# Altium integrated library STMicroelectronics STM32 F1.IntLib: 245 symbols (part 13 of 24)
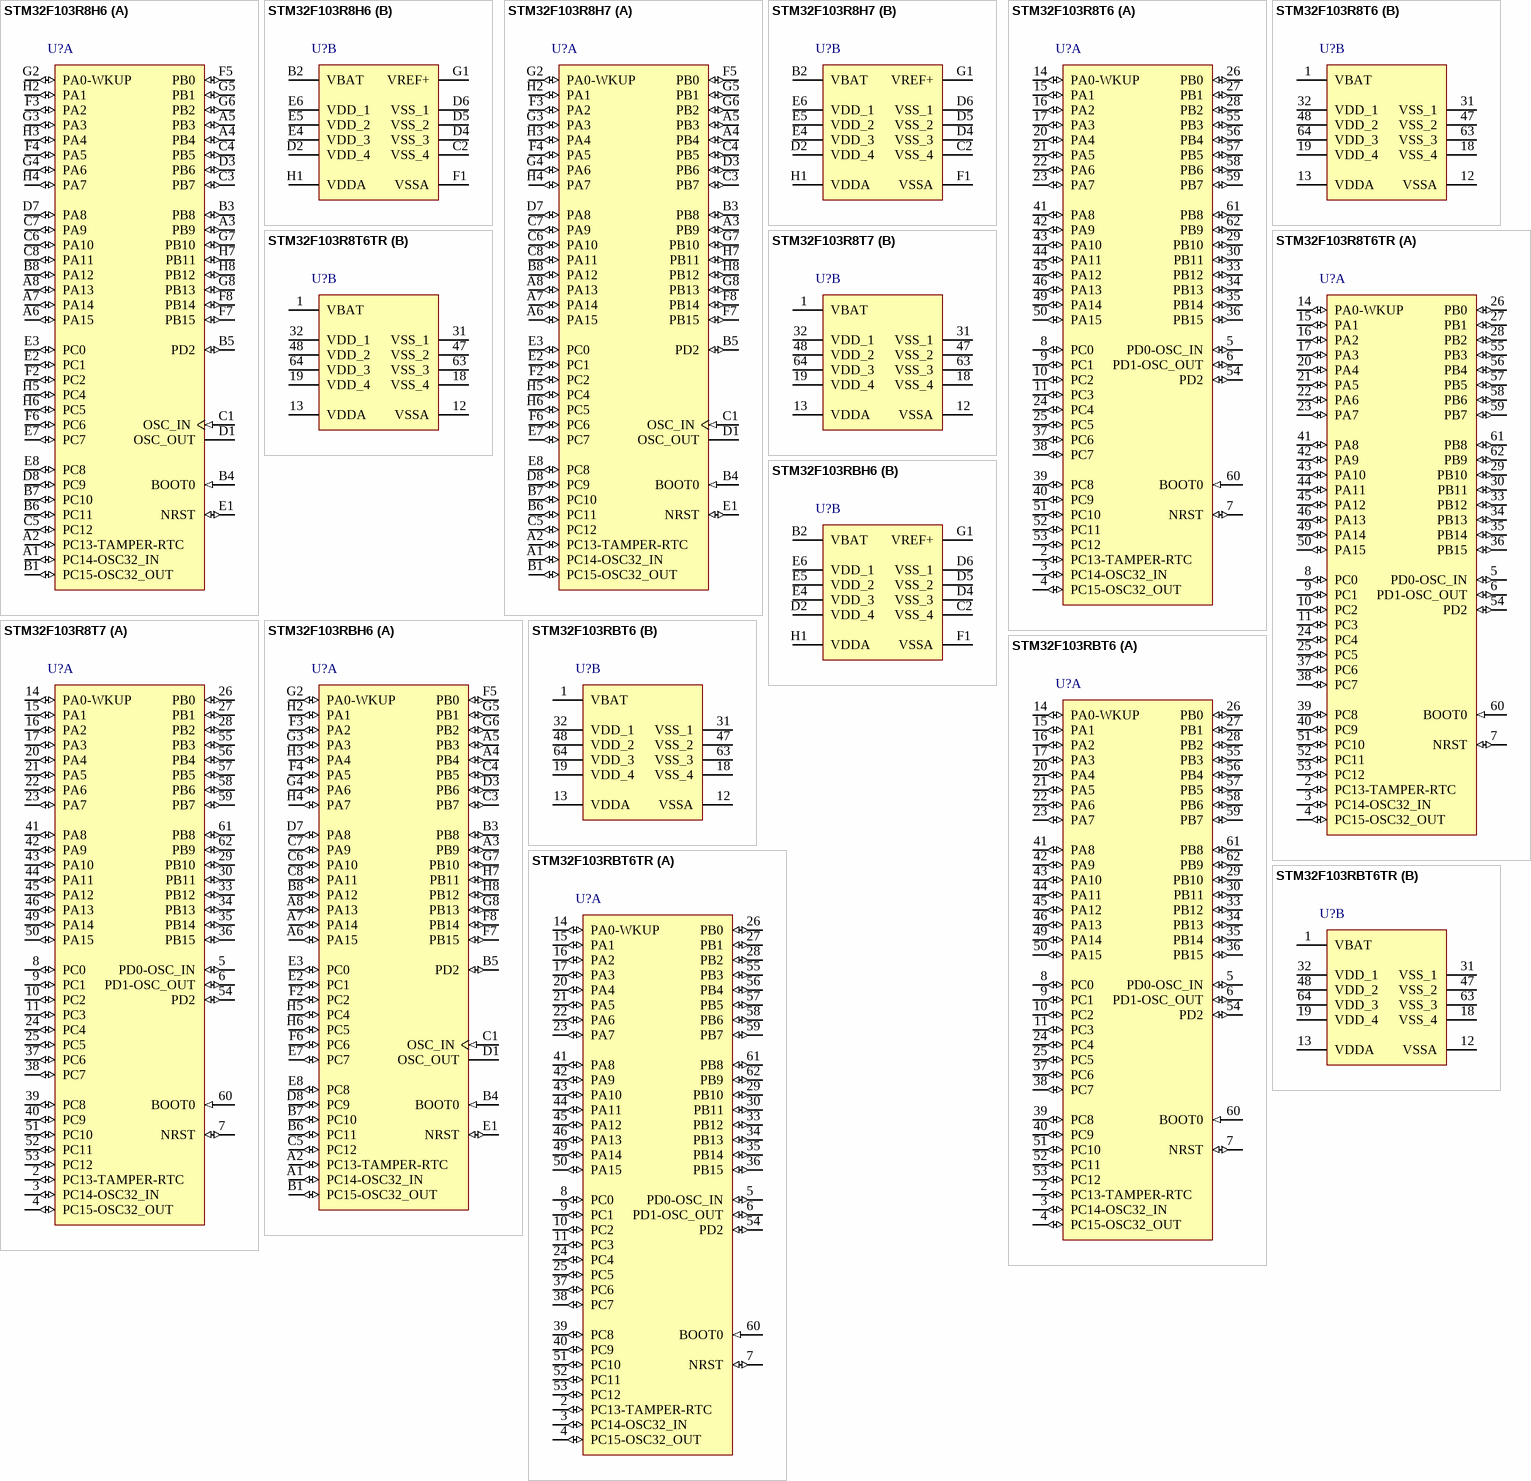
[diagram p54: symbols STM32F103R8H6 to STM32F103RBT6TR]

## STM32F103R8H7
designator U?
ARM Cortex-M3 32-bit MCU, 64 KB Flash, 20 KB Internal RAM, 51 I/Os, 64-pin TFBGA, -40 to 105 degC, Tray; PartNumber: STM32F103R8H7; A/D Converter: 2x12-bit (15 Channel); FLASH Size (Prog) (kB): 64; I/Os (High Current): 51; Internal RAM Size (kB): 20; Operating Frequency(F) (Processor speed) (MHz): 72; Supply Voltage(Vcc) min (V): 2; DatasheetVersion: Rev. 16; PackageVersion: Rev. 8, 02/2013; PackageReference: TFBGA64; PackageDescription: 64-Ball Thin Fine Pitch BGA, 5 x 5 x 1.2 mm Body, 0.5 mm Pitch; Supplier 1: Digi-Key; Supplier Part Number 1: STM32F103R8H7-ND; Supplier 2: Farnell; Supplier Part Number 2: 2333165; Supplier 3: Newark; Supplier Part Number 3: 99W9794; Supplier 4: Mouser; Supplier Part Number 4: 511-STM32F103R8H7; Core: ARM Cortex-M3; Packing: Tray; Mounting Technology: Surface Mount; ComponentLink1Description: Manufacturer URL; ComponentLink1URL: http://www.st.com/web/en/home.html; ComponentLink2Description: Datasheet; ComponentLink2URL: http://www.st.com/st-web-ui/static/active/en/resource/technical/document/datasheet/CD00161566.pdf; ComponentLink3Description: Package Specification; ComponentLink3URL: http://www.st.com/st-web-ui/static/active/en/resource/technical/document/datasheet/CD00277537.pdf
footprint STM-TFBGA64 (BGA, 64-Balls, Body 5x5mm, Pitch 0.5mm)
part A pins: A1 PC14-OSC32_IN (io) "PC14-OSC32_IN/PC14/OSC32_IN", A2 PC13-TAMPER-RTC (io) "PC13-TAMPER-RTC/PC13/TAMPER-RTC", A3 PB9 (io) "PB9/TIM4_CH4/I2C1_SDA/CANTX", A4 PB4 (io) "PB4/NJTRST/TIM3_CH1/SPI1_MISO", A5 PB3 (io) "PB3/JTDO/TIM2_CH2/TRACESWO/SPI1_SCK", A6 PA15 (io) "PA15/JTDI/TIM2_CH1_ETR/SPI1_NSS", A7 PA14 (io) "PA14/JTCK/SWCLK", A8 PA13 (io) "PA13/JTMS/SWDIO", B1 PC15-OSC32_OUT (io) "PC15-OSC32_OUT/PC15/OSC32_OUT", B3 PB8 (io) "PB8/TIM4_CH3/I2C1_SCL/CANRX", B4 BOOT0 (in), B5 PD2 (io) "PD2/TIM3_ETR", B6 PC11 (io) "PC11/USART3_RX", B7 PC10 (io) "PC10/USART3_TX", B8 PA12 (io) "PA12/USART1_RTS/CANTX/USBDP/TIM1_ETR", C1 OSC_IN (in) "PD0/OSC_IN/CANRX", C3 PB7 (io) "PB7/I2C1_SDA/TIM4_CH2/USART1_RX", C4 PB5 (io) "PB5/I2C1_SMBAI/TIM3_CH2/SPI1_MOSI", C5 PC12 (io) "PC12/USART3_CK", C6 PA10 (io) "PA10/USART1_RX/TIM1_CH3", C7 PA9 (io) "PA9/USART1_TX/TIM1_CH2", C8 PA11 (io) "PA11/USART1_CTS/CANRX/USBDM/TIM1_CH4", D1 OSC_OUT "PD1/OSC_OUT/CANTX", D3 PB6 (io) "PB6/I2C1_SCL/TIM4_CH1/USART1_TX", D7 PA8 (io) "PA8/USART1_CK/TIM1_CH1/MCO", D8 PC9 (io) "PC9/TIM3_CH4", E1 NRST (io), E2 PC1 (io) "PC1/ADC12_IN11", E3 PC0 (io) "PC0/ADC12_IN10", E7 PC7 (io) "PC7/TIM3_CH2", E8 PC8 (io) "PC8/TIM3_CH3", F2 PC2 (io) "PC2/ADC12_IN12", F3 PA2 (io) "PA2/USART2_TX/ADC12_IN2/TIM2_CH3", F4 PA5 (io) "PA5/SPI1_SCK/ADC12_IN5", F5 PB0 (io) "PB0/ADC12_IN8/TIM3_CH3/TIM1_CH2N", F6 PC6 (io) "PC6/TIM3_CH1", F7 PB15 (io) "PB15/SPI2_MOSI/TIM1_CH3N", F8 PB14 (io) "PB14/SPI2_MISO/USART3_RTS/TIM1_CH2N", G2 PA0-WKUP (io) "PA0-WKUP/PA0/WKUP/USART2_CTS/ADC12_IN0/TIM2_CH1_ETR", G3 PA3 (io) "PA3/USART2_RX/ADC12_IN3/TIM2_CH4", G4 PA6 (io) "PA6/SPI1_MISO/ADC12_IN6/TIM3_CH1/TIM1_BKIN", G5 PB1 (io) "PB1/ADC12_IN9/TIM3_CH4/TIM1_CH3N", G6 PB2 (io) "PB2/BOOT1", G7 PB10 (io) "PB10/I2C2_SCL/USART3_TX/TIM2_CH3", G8 PB13 (io) "PB13/SPI2_SCK/USART3_CTS/TIM1_CH1N", H2 PA1 (io) "PA1/USART2_RTS/ADC12_IN1/TIM2_CH2", H3 PA4 (io) "PA4/SPI1_NSS/USART2_CK/ADC12_IN4", H4 PA7 (io) "PA7/SPI1_MOSI/ADC12_IN7/TIM3_CH2/TIM1_CH1N", H5 PC4 (io) "PC4/ADC12_IN14", H6 PC5 (io) "PC5/ADC12_IN15", H7 PB11 (io) "PB11/I2C2_SDA/USART3_RX/TIM2_CH4", H8 PB12 (io) "PB12/SPI2_NSS/I2C2_SMBAl/USART3_CK/TIM1_BKIN"
part B pins: B2 VBAT (power), C2 VSS_4 (power), D2 VDD_4 (power), D4 VSS_3 (power), D5 VSS_2 (power), D6 VSS_1 (power), E4 VDD_3 (power), E5 VDD_2 (power), E6 VDD_1 (power), F1 VSSA (power), G1 VREF+ (power), H1 VDDA (power)

## STM32F103R8T6
designator U?
ARM Cortex-M3 32-bit MCU, 64 KB Flash, 20 KB Internal RAM, 51 I/Os, 64-pin LQFP, -40 to 85 degC, Tray; PartNumber: STM32F103R8T6; A/D Converter: 2x12-bit (16 Channel); FLASH Size (Prog) (kB): 64; I/Os (High Current): 51; Internal RAM Size (kB): 20; Operating Frequency(F) (Processor speed) (MHz): 72; Supply Voltage(Vcc) min (V): 2; DatasheetVersion: Rev. 16; PackageVersion: Rev. 4, 06/2013; PackageReference: LQFP64; PackageDescription: 64-Pin Low Profile Quad Flat Package, 10 x 10 mm Body, 0.5 mm Pitch; Supplier 1: Digi-Key; Supplier Part Number 1: 497-6065-ND; Supplier 2: Farnell; Supplier Part Number 2: 1447638; Supplier 3: Newark; Supplier Part Number 3: 57P1241; Supplier 4: Mouser; Supplier Part Number 4: 511-STM32F103R8T6; Core: ARM Cortex-M3; Packing: Tray; Mounting Technology: Surface Mount; ComponentLink1Description: Manufacturer URL; ComponentLink1URL: http://www.st.com/web/en/home.html; ComponentLink2Description: Datasheet; ComponentLink2URL: http://www.st.com/st-web-ui/static/active/en/resource/technical/document/datasheet/CD00161566.pdf; ComponentLink3Description: Package Specification; ComponentLink3URL: http://www.st.com/st-web-ui/static/active/en/resource/technical/document/datasheet/DM00037051.pdf
footprint STM-LQFP64_N (Thin QFP, 64-Leads, Body 10x10mm, Pitch 0.5mm, IPC Medium Density)
footprint STM-LQFP64_L (Thin QFP, 64-Leads, Body 10x10mm, Pitch 0.5mm, IPC High Density)
footprint STM-LQFP64_M (Thin QFP, 64-Leads, Body 10x10mm, Pitch 0.5mm, IPC Low Density)
footprint STM-LQFP64_V (Thin QFP, 64-Leads, Body 10x10mm, Pitch 0.5mm, ST Recommended)
part A pins: 2 PC13-TAMPER-RTC (io) "PC13-TAMPER-RTC/PC13/TAMPER-RTC", 3 PC14-OSC32_IN (io) "PC14-OSC32_IN/PC14/OSC32_IN", 4 PC15-OSC32_OUT (io) "PC15-OSC32_OUT/PC15/OSC32_OUT", 5 PD0-OSC_IN (io) "PD0/OSC_IN", 6 PD1-OSC_OUT (io) "PD1/OSC_OUT", 7 NRST (io), 8 PC0 (io) "PC0/ADC12_IN10", 9 PC1 (io) "PC1/ADC12_IN11", 10 PC2 (io) "PC2/ADC12_IN12", 11 PC3 (io) "PC3/ADC12_IN13", 14 PA0-WKUP (io) "PA0-WKUP/PA0/WKUP/USART2_CTS/ADC12_IN0/TIM2_CH1_ETR", 15 PA1 (io) "PA1/USART2_RTS/ADC12_IN1/TIM2_CH2", 16 PA2 (io) "PA2/USART2_TX/ADC12_IN2/TIM2_CH3", 17 PA3 (io) "PA3/USART2_RX/ADC12_IN3/TIM2_CH4", 20 PA4 (io) "PA4/SPI1_NSS/USART2_CK/ADC12_IN4", 21 PA5 (io) "PA5/SPI1_SCK/ADC12_IN5", 22 PA6 (io) "PA6/SPI1_MISO/ADC12_IN6/TIM3_CH1/TIM1_BKIN", 23 PA7 (io) "PA7/SPI1_MOSI/ADC12_IN7/TIM3_CH2/TIM1_CH1N", 24 PC4 (io) "PC4/ADC12_IN14", 25 PC5 (io) "PC5/ADC12_IN15", 26 PB0 (io) "PB0/ADC12_IN8/TIM3_CH3/TIM1_CH2N", 27 PB1 (io) "PB1/ADC12_IN9/TIM3_CH4/TIM1_CH3N", 28 PB2 (io) "PB2/BOOT1", 29 PB10 (io) "PB10/I2C2_SCL/USART3_TX/TIM2_CH3", 30 PB11 (io) "PB11/I2C2_SDA/USART3_RX/TIM2_CH4", 33 PB12 (io) "PB12/SPI2_NSS/I2C2_SMBAl/USART3_CK/TIM1_BKIN", 34 PB13 (io) "PB13/SPI2_SCK/USART3_CTS/TIM1_CH1N", 35 PB14 (io) "PB14/SPI2_MISO/USART3_RTS/TIM1_CH2N", 36 PB15 (io) "PB15/SPI2_MOSI/TIM1_CH3N", 37 PC6 (io) "PC6/TIM3_CH1", 38 PC7 (io) "PC7/TIM3_CH2", 39 PC8 (io) "PC8/TIM3_CH3", 40 PC9 (io) "PC9/TIM3_CH4", 41 PA8 (io) "PA8/USART1_CK/TIM1_CH1/MCO", 42 PA9 (io) "PA9/USART1_TX/TIM1_CH2", 43 PA10 (io) "PA10/USART1_RX/TIM1_CH3", 44 PA11 (io) "PA11/USART1_CTS/CANRX/USBDM/TIM1_CH4", 45 PA12 (io) "PA12/USART1_RTS/CANTX/USBDP/TIM1_ETR", 46 PA13 (io) "PA13/JTMS/SWDIO", 49 PA14 (io) "PA14/JTCK/SWCLK", 50 PA15 (io) "PA15/JTDI/TIM2_CH1_ETR/SPI1_NSS", 51 PC10 (io) "PC10/USART3_TX", 52 PC11 (io) "PC11/USART3_RX", 53 PC12 (io) "PC12/USART3_CK", 54 PD2 (io) "PD2/TIM3_ETR", 55 PB3 (io) "PB3/JTDO/TIM2_CH2/TRACESWO/SPI1_SCK", 56 PB4 (io) "PB4/NJTRST/TIM3_CH1/SPI1_MISO", 57 PB5 (io) "PB5/I2C1_SMBAI/TIM3_CH2/SPI1_MOSI", 58 PB6 (io) "PB6/I2C1_SCL/TIM4_CH1/USART1_TX", 59 PB7 (io) "PB7/I2C1_SDA/TIM4_CH2/USART1_RX", 60 BOOT0 (in), 61 PB8 (io) "PB8/TIM4_CH3/I2C1_SCL/CANRX", 62 PB9 (io) "PB9/TIM4_CH4/I2C1_SDA/CANTX"
part B pins: 1 VBAT (power), 12 VSSA (power), 13 VDDA (power), 18 VSS_4 (power), 19 VDD_4 (power), 31 VSS_1 (power), 32 VDD_1 (power), 47 VSS_2 (power), 48 VDD_2 (power), 63 VSS_3 (power), 64 VDD_3 (power)

## STM32F103R8T6TR
designator U?
ARM Cortex-M3 32-bit MCU, 64 KB Flash, 20 KB Internal RAM, 51 I/Os, 64-pin LQFP, -40 to 85 degC, Tape and Reel; PartNumber: STM32F103R8T6TR; A/D Converter: 2x12-bit (16 Channel); FLASH Size (Prog) (kB): 64; I/Os (High Current): 51; Internal RAM Size (kB): 20; Operating Frequency(F) (Processor speed) (MHz): 72; Supply Voltage(Vcc) min (V): 2; DatasheetVersion: Rev. 16; PackageVersion: Rev. 4, 06/2013; PackageReference: LQFP64; PackageDescription: 64-Pin Low Profile Quad Flat Package, 10 x 10 mm Body, 0.5 mm Pitch; Supplier 1: Digi-Key; Supplier Part Number 1: STM32F103R8T6TR-ND; Supplier 2: Mouser; Supplier Part Number 2: 511-STM32F103R8T6TR; Core: ARM Cortex-M3; Packing: Tape and Reel; Mounting Technology: Surface Mount; ComponentLink1Description: Manufacturer URL; ComponentLink1URL: http://www.st.com/web/en/home.html; ComponentLink2Description: Datasheet; ComponentLink2URL: http://www.st.com/st-web-ui/static/active/en/resource/technical/document/datasheet/CD00161566.pdf; ComponentLink3Description: Package Specification; ComponentLink3URL: http://www.st.com/st-web-ui/static/active/en/resource/technical/document/datasheet/DM00037051.pdf
footprint STM-LQFP64_N (Thin QFP, 64-Leads, Body 10x10mm, Pitch 0.5mm, IPC Medium Density)
footprint STM-LQFP64_L (Thin QFP, 64-Leads, Body 10x10mm, Pitch 0.5mm, IPC High Density)
footprint STM-LQFP64_M (Thin QFP, 64-Leads, Body 10x10mm, Pitch 0.5mm, IPC Low Density)
footprint STM-LQFP64_V (Thin QFP, 64-Leads, Body 10x10mm, Pitch 0.5mm, ST Recommended)
part A pins: 2 PC13-TAMPER-RTC (io) "PC13-TAMPER-RTC/PC13/TAMPER-RTC", 3 PC14-OSC32_IN (io) "PC14-OSC32_IN/PC14/OSC32_IN", 4 PC15-OSC32_OUT (io) "PC15-OSC32_OUT/PC15/OSC32_OUT", 5 PD0-OSC_IN (io) "PD0/OSC_IN", 6 PD1-OSC_OUT (io) "PD1/OSC_OUT", 7 NRST (io), 8 PC0 (io) "PC0/ADC12_IN10", 9 PC1 (io) "PC1/ADC12_IN11", 10 PC2 (io) "PC2/ADC12_IN12", 11 PC3 (io) "PC3/ADC12_IN13", 14 PA0-WKUP (io) "PA0-WKUP/PA0/WKUP/USART2_CTS/ADC12_IN0/TIM2_CH1_ETR", 15 PA1 (io) "PA1/USART2_RTS/ADC12_IN1/TIM2_CH2", 16 PA2 (io) "PA2/USART2_TX/ADC12_IN2/TIM2_CH3", 17 PA3 (io) "PA3/USART2_RX/ADC12_IN3/TIM2_CH4", 20 PA4 (io) "PA4/SPI1_NSS/USART2_CK/ADC12_IN4", 21 PA5 (io) "PA5/SPI1_SCK/ADC12_IN5", 22 PA6 (io) "PA6/SPI1_MISO/ADC12_IN6/TIM3_CH1/TIM1_BKIN", 23 PA7 (io) "PA7/SPI1_MOSI/ADC12_IN7/TIM3_CH2/TIM1_CH1N", 24 PC4 (io) "PC4/ADC12_IN14", 25 PC5 (io) "PC5/ADC12_IN15", 26 PB0 (io) "PB0/ADC12_IN8/TIM3_CH3/TIM1_CH2N", 27 PB1 (io) "PB1/ADC12_IN9/TIM3_CH4/TIM1_CH3N", 28 PB2 (io) "PB2/BOOT1", 29 PB10 (io) "PB10/I2C2_SCL/USART3_TX/TIM2_CH3", 30 PB11 (io) "PB11/I2C2_SDA/USART3_RX/TIM2_CH4", 33 PB12 (io) "PB12/SPI2_NSS/I2C2_SMBAl/USART3_CK/TIM1_BKIN", 34 PB13 (io) "PB13/SPI2_SCK/USART3_CTS/TIM1_CH1N", 35 PB14 (io) "PB14/SPI2_MISO/USART3_RTS/TIM1_CH2N", 36 PB15 (io) "PB15/SPI2_MOSI/TIM1_CH3N", 37 PC6 (io) "PC6/TIM3_CH1", 38 PC7 (io) "PC7/TIM3_CH2", 39 PC8 (io) "PC8/TIM3_CH3", 40 PC9 (io) "PC9/TIM3_CH4", 41 PA8 (io) "PA8/USART1_CK/TIM1_CH1/MCO", 42 PA9 (io) "PA9/USART1_TX/TIM1_CH2", 43 PA10 (io) "PA10/USART1_RX/TIM1_CH3", 44 PA11 (io) "PA11/USART1_CTS/CANRX/USBDM/TIM1_CH4", 45 PA12 (io) "PA12/USART1_RTS/CANTX/USBDP/TIM1_ETR", 46 PA13 (io) "PA13/JTMS/SWDIO", 49 PA14 (io) "PA14/JTCK/SWCLK", 50 PA15 (io) "PA15/JTDI/TIM2_CH1_ETR/SPI1_NSS", 51 PC10 (io) "PC10/USART3_TX", 52 PC11 (io) "PC11/USART3_RX", 53 PC12 (io) "PC12/USART3_CK", 54 PD2 (io) "PD2/TIM3_ETR", 55 PB3 (io) "PB3/JTDO/TIM2_CH2/TRACESWO/SPI1_SCK", 56 PB4 (io) "PB4/NJTRST/TIM3_CH1/SPI1_MISO", 57 PB5 (io) "PB5/I2C1_SMBAI/TIM3_CH2/SPI1_MOSI", 58 PB6 (io) "PB6/I2C1_SCL/TIM4_CH1/USART1_TX", 59 PB7 (io) "PB7/I2C1_SDA/TIM4_CH2/USART1_RX", 60 BOOT0 (in), 61 PB8 (io) "PB8/TIM4_CH3/I2C1_SCL/CANRX", 62 PB9 (io) "PB9/TIM4_CH4/I2C1_SDA/CANTX"
part B pins: 1 VBAT (power), 12 VSSA (power), 13 VDDA (power), 18 VSS_4 (power), 19 VDD_4 (power), 31 VSS_1 (power), 32 VDD_1 (power), 47 VSS_2 (power), 48 VDD_2 (power), 63 VSS_3 (power), 64 VDD_3 (power)

## STM32F103R8T7
designator U?
ARM Cortex-M3 32-bit MCU, 64 KB Flash, 20 KB Internal RAM, 51 I/Os, 64-pin LQFP, -40 to 105 degC, Tray; PartNumber: STM32F103R8T7; A/D Converter: 2x12-bit (16 Channel); FLASH Size (Prog) (kB): 64; I/Os (High Current): 51; Internal RAM Size (kB): 20; Operating Frequency(F) (Processor speed) (MHz): 72; Supply Voltage(Vcc) min (V): 2; DatasheetVersion: Rev. 16; PackageVersion: Rev. 4, 06/2013; PackageReference: LQFP64; PackageDescription: 64-Pin Low Profile Quad Flat Package, 10 x 10 mm Body, 0.5 mm Pitch; Supplier 1: Digi-Key; Supplier Part Number 1: 497-11524-ND; Supplier 2: Farnell; Supplier Part Number 2: 2215216; Supplier 3: Newark; Supplier Part Number 3: 46W2188; Supplier 4: Mouser; Supplier Part Number 4: 511-STM32F103R8T7; Core: ARM Cortex-M3; Packing: Tray; Mounting Technology: Surface Mount; ComponentLink1Description: Manufacturer URL; ComponentLink1URL: http://www.st.com/web/en/home.html; ComponentLink2Description: Datasheet; ComponentLink2URL: http://www.st.com/st-web-ui/static/active/en/resource/technical/document/datasheet/CD00161566.pdf; ComponentLink3Description: Package Specification; ComponentLink3URL: http://www.st.com/st-web-ui/static/active/en/resource/technical/document/datasheet/DM00037051.pdf
footprint STM-LQFP64_N (Thin QFP, 64-Leads, Body 10x10mm, Pitch 0.5mm, IPC Medium Density)
footprint STM-LQFP64_L (Thin QFP, 64-Leads, Body 10x10mm, Pitch 0.5mm, IPC High Density)
footprint STM-LQFP64_M (Thin QFP, 64-Leads, Body 10x10mm, Pitch 0.5mm, IPC Low Density)
footprint STM-LQFP64_V (Thin QFP, 64-Leads, Body 10x10mm, Pitch 0.5mm, ST Recommended)
part A pins: 2 PC13-TAMPER-RTC (io) "PC13-TAMPER-RTC/PC13/TAMPER-RTC", 3 PC14-OSC32_IN (io) "PC14-OSC32_IN/PC14/OSC32_IN", 4 PC15-OSC32_OUT (io) "PC15-OSC32_OUT/PC15/OSC32_OUT", 5 PD0-OSC_IN (io) "PD0/OSC_IN", 6 PD1-OSC_OUT (io) "PD1/OSC_OUT", 7 NRST (io), 8 PC0 (io) "PC0/ADC12_IN10", 9 PC1 (io) "PC1/ADC12_IN11", 10 PC2 (io) "PC2/ADC12_IN12", 11 PC3 (io) "PC3/ADC12_IN13", 14 PA0-WKUP (io) "PA0-WKUP/PA0/WKUP/USART2_CTS/ADC12_IN0/TIM2_CH1_ETR", 15 PA1 (io) "PA1/USART2_RTS/ADC12_IN1/TIM2_CH2", 16 PA2 (io) "PA2/USART2_TX/ADC12_IN2/TIM2_CH3", 17 PA3 (io) "PA3/USART2_RX/ADC12_IN3/TIM2_CH4", 20 PA4 (io) "PA4/SPI1_NSS/USART2_CK/ADC12_IN4", 21 PA5 (io) "PA5/SPI1_SCK/ADC12_IN5", 22 PA6 (io) "PA6/SPI1_MISO/ADC12_IN6/TIM3_CH1/TIM1_BKIN", 23 PA7 (io) "PA7/SPI1_MOSI/ADC12_IN7/TIM3_CH2/TIM1_CH1N", 24 PC4 (io) "PC4/ADC12_IN14", 25 PC5 (io) "PC5/ADC12_IN15", 26 PB0 (io) "PB0/ADC12_IN8/TIM3_CH3/TIM1_CH2N", 27 PB1 (io) "PB1/ADC12_IN9/TIM3_CH4/TIM1_CH3N", 28 PB2 (io) "PB2/BOOT1", 29 PB10 (io) "PB10/I2C2_SCL/USART3_TX/TIM2_CH3", 30 PB11 (io) "PB11/I2C2_SDA/USART3_RX/TIM2_CH4", 33 PB12 (io) "PB12/SPI2_NSS/I2C2_SMBAl/USART3_CK/TIM1_BKIN", 34 PB13 (io) "PB13/SPI2_SCK/USART3_CTS/TIM1_CH1N", 35 PB14 (io) "PB14/SPI2_MISO/USART3_RTS/TIM1_CH2N", 36 PB15 (io) "PB15/SPI2_MOSI/TIM1_CH3N", 37 PC6 (io) "PC6/TIM3_CH1", 38 PC7 (io) "PC7/TIM3_CH2", 39 PC8 (io) "PC8/TIM3_CH3", 40 PC9 (io) "PC9/TIM3_CH4", 41 PA8 (io) "PA8/USART1_CK/TIM1_CH1/MCO", 42 PA9 (io) "PA9/USART1_TX/TIM1_CH2", 43 PA10 (io) "PA10/USART1_RX/TIM1_CH3", 44 PA11 (io) "PA11/USART1_CTS/CANRX/USBDM/TIM1_CH4", 45 PA12 (io) "PA12/USART1_RTS/CANTX/USBDP/TIM1_ETR", 46 PA13 (io) "PA13/JTMS/SWDIO", 49 PA14 (io) "PA14/JTCK/SWCLK", 50 PA15 (io) "PA15/JTDI/TIM2_CH1_ETR/SPI1_NSS", 51 PC10 (io) "PC10/USART3_TX", 52 PC11 (io) "PC11/USART3_RX", 53 PC12 (io) "PC12/USART3_CK", 54 PD2 (io) "PD2/TIM3_ETR", 55 PB3 (io) "PB3/JTDO/TIM2_CH2/TRACESWO/SPI1_SCK", 56 PB4 (io) "PB4/NJTRST/TIM3_CH1/SPI1_MISO", 57 PB5 (io) "PB5/I2C1_SMBAI/TIM3_CH2/SPI1_MOSI", 58 PB6 (io) "PB6/I2C1_SCL/TIM4_CH1/USART1_TX", 59 PB7 (io) "PB7/I2C1_SDA/TIM4_CH2/USART1_RX", 60 BOOT0 (in), 61 PB8 (io) "PB8/TIM4_CH3/I2C1_SCL/CANRX", 62 PB9 (io) "PB9/TIM4_CH4/I2C1_SDA/CANTX"
part B pins: 1 VBAT (power), 12 VSSA (power), 13 VDDA (power), 18 VSS_4 (power), 19 VDD_4 (power), 31 VSS_1 (power), 32 VDD_1 (power), 47 VSS_2 (power), 48 VDD_2 (power), 63 VSS_3 (power), 64 VDD_3 (power)

## STM32F103RBH6
designator U?
ARM Cortex-M3 32-bit MCU, 128 KB Flash, 20 KB Internal RAM, 51 I/Os, 64-pin TFBGA, -40 to 85 degC, Tray; PartNumber: STM32F103RBH6; A/D Converter: 2x12-bit (15 Channel); FLASH Size (Prog) (kB): 128; I/Os (High Current): 51; Internal RAM Size (kB): 20; Operating Frequency(F) (Processor speed) (MHz): 72; Supply Voltage(Vcc) min (V): 2; DatasheetVersion: Rev. 16; PackageVersion: Rev. 8, 02/2013; PackageReference: TFBGA64; PackageDescription: 64-Ball Thin Fine Pitch BGA, 5 x 5 x 1.2 mm Body, 0.5 mm Pitch; Supplier 1: Digi-Key; Supplier Part Number 1: 497-11525-ND; Supplier 2: Farnell; Supplier Part Number 2: 2333166; Supplier 3: Newark; Supplier Part Number 3: 99W9783; Supplier 4: Newark; Supplier Part Number 4: 57P1223; Supplier 5: Mouser; Supplier Part Number 5: 511-STM32F103RBH6; Core: ARM Cortex-M3; Packing: Tray; Mounting Technology: Surface Mount; ComponentLink1Description: Manufacturer URL; ComponentLink1URL: http://www.st.com/web/en/home.html; ComponentLink2Description: Datasheet; ComponentLink2URL: http://www.st.com/st-web-ui/static/active/en/resource/technical/document/datasheet/CD00161566.pdf; ComponentLink3Description: Package Specification; ComponentLink3URL: http://www.st.com/st-web-ui/static/active/en/resource/technical/document/datasheet/CD00277537.pdf
footprint STM-TFBGA64 (BGA, 64-Balls, Body 5x5mm, Pitch 0.5mm)
part A pins: A1 PC14-OSC32_IN (io) "PC14-OSC32_IN/PC14/OSC32_IN", A2 PC13-TAMPER-RTC (io) "PC13-TAMPER-RTC/PC13/TAMPER-RTC", A3 PB9 (io) "PB9/TIM4_CH4/I2C1_SDA/CANTX", A4 PB4 (io) "PB4/NJTRST/TIM3_CH1/SPI1_MISO", A5 PB3 (io) "PB3/JTDO/TIM2_CH2/TRACESWO/SPI1_SCK", A6 PA15 (io) "PA15/JTDI/TIM2_CH1_ETR/SPI1_NSS", A7 PA14 (io) "PA14/JTCK/SWCLK", A8 PA13 (io) "PA13/JTMS/SWDIO", B1 PC15-OSC32_OUT (io) "PC15-OSC32_OUT/PC15/OSC32_OUT", B3 PB8 (io) "PB8/TIM4_CH3/I2C1_SCL/CANRX", B4 BOOT0 (in), B5 PD2 (io) "PD2/TIM3_ETR", B6 PC11 (io) "PC11/USART3_RX", B7 PC10 (io) "PC10/USART3_TX", B8 PA12 (io) "PA12/USART1_RTS/CANTX/USBDP/TIM1_ETR", C1 OSC_IN (in) "PD0/OSC_IN/CANRX", C3 PB7 (io) "PB7/I2C1_SDA/TIM4_CH2/USART1_RX", C4 PB5 (io) "PB5/I2C1_SMBAI/TIM3_CH2/SPI1_MOSI", C5 PC12 (io) "PC12/USART3_CK", C6 PA10 (io) "PA10/USART1_RX/TIM1_CH3", C7 PA9 (io) "PA9/USART1_TX/TIM1_CH2", C8 PA11 (io) "PA11/USART1_CTS/CANRX/USBDM/TIM1_CH4", D1 OSC_OUT "PD1/OSC_OUT/CANTX", D3 PB6 (io) "PB6/I2C1_SCL/TIM4_CH1/USART1_TX", D7 PA8 (io) "PA8/USART1_CK/TIM1_CH1/MCO", D8 PC9 (io) "PC9/TIM3_CH4", E1 NRST (io), E2 PC1 (io) "PC1/ADC12_IN11", E3 PC0 (io) "PC0/ADC12_IN10", E7 PC7 (io) "PC7/TIM3_CH2", E8 PC8 (io) "PC8/TIM3_CH3", F2 PC2 (io) "PC2/ADC12_IN12", F3 PA2 (io) "PA2/USART2_TX/ADC12_IN2/TIM2_CH3", F4 PA5 (io) "PA5/SPI1_SCK/ADC12_IN5", F5 PB0 (io) "PB0/ADC12_IN8/TIM3_CH3/TIM1_CH2N", F6 PC6 (io) "PC6/TIM3_CH1", F7 PB15 (io) "PB15/SPI2_MOSI/TIM1_CH3N", F8 PB14 (io) "PB14/SPI2_MISO/USART3_RTS/TIM1_CH2N", G2 PA0-WKUP (io) "PA0-WKUP/PA0/WKUP/USART2_CTS/ADC12_IN0/TIM2_CH1_ETR", G3 PA3 (io) "PA3/USART2_RX/ADC12_IN3/TIM2_CH4", G4 PA6 (io) "PA6/SPI1_MISO/ADC12_IN6/TIM3_CH1/TIM1_BKIN", G5 PB1 (io) "PB1/ADC12_IN9/TIM3_CH4/TIM1_CH3N", G6 PB2 (io) "PB2/BOOT1", G7 PB10 (io) "PB10/I2C2_SCL/USART3_TX/TIM2_CH3", G8 PB13 (io) "PB13/SPI2_SCK/USART3_CTS/TIM1_CH1N", H2 PA1 (io) "PA1/USART2_RTS/ADC12_IN1/TIM2_CH2", H3 PA4 (io) "PA4/SPI1_NSS/USART2_CK/ADC12_IN4", H4 PA7 (io) "PA7/SPI1_MOSI/ADC12_IN7/TIM3_CH2/TIM1_CH1N", H5 PC4 (io) "PC4/ADC12_IN14", H6 PC5 (io) "PC5/ADC12_IN15", H7 PB11 (io) "PB11/I2C2_SDA/USART3_RX/TIM2_CH4", H8 PB12 (io) "PB12/SPI2_NSS/I2C2_SMBAl/USART3_CK/TIM1_BKIN"
part B pins: B2 VBAT (power), C2 VSS_4 (power), D2 VDD_4 (power), D4 VSS_3 (power), D5 VSS_2 (power), D6 VSS_1 (power), E4 VDD_3 (power), E5 VDD_2 (power), E6 VDD_1 (power), F1 VSSA (power), G1 VREF+ (power), H1 VDDA (power)

## STM32F103RBT6
designator U?
ARM Cortex-M3 32-bit MCU, 128 KB Flash, 20 KB Internal RAM, 51 I/Os, 64-pin LQFP, -40 to 85 degC, Tray; PartNumber: STM32F103RBT6; A/D Converter: 2x12-bit (16 Channel); FLASH Size (Prog) (kB): 128; I/Os (High Current): 51; Internal RAM Size (kB): 20; Operating Frequency(F) (Processor speed) (MHz): 72; Supply Voltage(Vcc) min (V): 2; DatasheetVersion: Rev. 16; PackageVersion: Rev. 4, 06/2013; PackageReference: LQFP64; PackageDescription: 64-Pin Low Profile Quad Flat Package, 10 x 10 mm Body, 0.5 mm Pitch; Supplier 1: Digi-Key; Supplier Part Number 1: 497-6066-ND; Supplier 2: Farnell; Supplier Part Number 2: 1447640; Supplier 3: Newark; Supplier Part Number 3: 59M2183; Supplier 4: Newark; Supplier Part Number 4: 57P1224; Supplier 5: Mouser; Supplier Part Number 5: 511-STM32F103RBT6; Core: ARM Cortex-M3; Packing: Tray; Mounting Technology: Surface Mount; ComponentLink1Description: Manufacturer URL; ComponentLink1URL: http://www.st.com/web/en/home.html; ComponentLink2Description: Datasheet; ComponentLink2URL: http://www.st.com/st-web-ui/static/active/en/resource/technical/document/datasheet/CD00161566.pdf; ComponentLink3Description: Package Specification; ComponentLink3URL: http://www.st.com/st-web-ui/static/active/en/resource/technical/document/datasheet/DM00037051.pdf
footprint STM-LQFP64_N (Thin QFP, 64-Leads, Body 10x10mm, Pitch 0.5mm, IPC Medium Density)
footprint STM-LQFP64_L (Thin QFP, 64-Leads, Body 10x10mm, Pitch 0.5mm, IPC High Density)
footprint STM-LQFP64_M (Thin QFP, 64-Leads, Body 10x10mm, Pitch 0.5mm, IPC Low Density)
footprint STM-LQFP64_V (Thin QFP, 64-Leads, Body 10x10mm, Pitch 0.5mm, ST Recommended)
part A pins: 2 PC13-TAMPER-RTC (io) "PC13-TAMPER-RTC/PC13/TAMPER-RTC", 3 PC14-OSC32_IN (io) "PC14-OSC32_IN/PC14/OSC32_IN", 4 PC15-OSC32_OUT (io) "PC15-OSC32_OUT/PC15/OSC32_OUT", 5 PD0-OSC_IN (io) "PD0/OSC_IN", 6 PD1-OSC_OUT (io) "PD1/OSC_OUT", 7 NRST (io), 8 PC0 (io) "PC0/ADC12_IN10", 9 PC1 (io) "PC1/ADC12_IN11", 10 PC2 (io) "PC2/ADC12_IN12", 11 PC3 (io) "PC3/ADC12_IN13", 14 PA0-WKUP (io) "PA0-WKUP/PA0/WKUP/USART2_CTS/ADC12_IN0/TIM2_CH1_ETR", 15 PA1 (io) "PA1/USART2_RTS/ADC12_IN1/TIM2_CH2", 16 PA2 (io) "PA2/USART2_TX/ADC12_IN2/TIM2_CH3", 17 PA3 (io) "PA3/USART2_RX/ADC12_IN3/TIM2_CH4", 20 PA4 (io) "PA4/SPI1_NSS/USART2_CK/ADC12_IN4", 21 PA5 (io) "PA5/SPI1_SCK/ADC12_IN5", 22 PA6 (io) "PA6/SPI1_MISO/ADC12_IN6/TIM3_CH1/TIM1_BKIN", 23 PA7 (io) "PA7/SPI1_MOSI/ADC12_IN7/TIM3_CH2/TIM1_CH1N", 24 PC4 (io) "PC4/ADC12_IN14", 25 PC5 (io) "PC5/ADC12_IN15", 26 PB0 (io) "PB0/ADC12_IN8/TIM3_CH3/TIM1_CH2N", 27 PB1 (io) "PB1/ADC12_IN9/TIM3_CH4/TIM1_CH3N", 28 PB2 (io) "PB2/BOOT1", 29 PB10 (io) "PB10/I2C2_SCL/USART3_TX/TIM2_CH3", 30 PB11 (io) "PB11/I2C2_SDA/USART3_RX/TIM2_CH4", 33 PB12 (io) "PB12/SPI2_NSS/I2C2_SMBAl/USART3_CK/TIM1_BKIN", 34 PB13 (io) "PB13/SPI2_SCK/USART3_CTS/TIM1_CH1N", 35 PB14 (io) "PB14/SPI2_MISO/USART3_RTS/TIM1_CH2N", 36 PB15 (io) "PB15/SPI2_MOSI/TIM1_CH3N", 37 PC6 (io) "PC6/TIM3_CH1", 38 PC7 (io) "PC7/TIM3_CH2", 39 PC8 (io) "PC8/TIM3_CH3", 40 PC9 (io) "PC9/TIM3_CH4", 41 PA8 (io) "PA8/USART1_CK/TIM1_CH1/MCO", 42 PA9 (io) "PA9/USART1_TX/TIM1_CH2", 43 PA10 (io) "PA10/USART1_RX/TIM1_CH3", 44 PA11 (io) "PA11/USART1_CTS/CANRX/USBDM/TIM1_CH4", 45 PA12 (io) "PA12/USART1_RTS/CANTX/USBDP/TIM1_ETR", 46 PA13 (io) "PA13/JTMS/SWDIO", 49 PA14 (io) "PA14/JTCK/SWCLK", 50 PA15 (io) "PA15/JTDI/TIM2_CH1_ETR/SPI1_NSS", 51 PC10 (io) "PC10/USART3_TX", 52 PC11 (io) "PC11/USART3_RX", 53 PC12 (io) "PC12/USART3_CK", 54 PD2 (io) "PD2/TIM3_ETR", 55 PB3 (io) "PB3/JTDO/TIM2_CH2/TRACESWO/SPI1_SCK", 56 PB4 (io) "PB4/NJTRST/TIM3_CH1/SPI1_MISO", 57 PB5 (io) "PB5/I2C1_SMBAI/TIM3_CH2/SPI1_MOSI", 58 PB6 (io) "PB6/I2C1_SCL/TIM4_CH1/USART1_TX", 59 PB7 (io) "PB7/I2C1_SDA/TIM4_CH2/USART1_RX", 60 BOOT0 (in), 61 PB8 (io) "PB8/TIM4_CH3/I2C1_SCL/CANRX", 62 PB9 (io) "PB9/TIM4_CH4/I2C1_SDA/CANTX"
part B pins: 1 VBAT (power), 12 VSSA (power), 13 VDDA (power), 18 VSS_4 (power), 19 VDD_4 (power), 31 VSS_1 (power), 32 VDD_1 (power), 47 VSS_2 (power), 48 VDD_2 (power), 63 VSS_3 (power), 64 VDD_3 (power)

## STM32F103RBT6TR
designator U?
ARM Cortex-M3 32-bit MCU, 128 KB Flash, 20 KB Internal RAM, 51 I/Os, 64-pin LQFP, -40 to 85 degC, Tape and Reel; PartNumber: STM32F103RBT6TR; A/D Converter: 2x12-bit (16 Channel); FLASH Size (Prog) (kB): 128; I/Os (High Current): 51; Internal RAM Size (kB): 20; Operating Frequency(F) (Processor speed) (MHz): 72; Supply Voltage(Vcc) min (V): 2; DatasheetVersion: Rev. 16; PackageVersion: Rev. 4, 06/2013; PackageReference: LQFP64; PackageDescription: 64-Pin Low Profile Quad Flat Package, 10 x 10 mm Body, 0.5 mm Pitch; Supplier 1: Digi-Key; Supplier Part Number 1: STM32F103RBT6TR-ND; Supplier 2: Mouser; Supplier Part Number 2: 511-STM32F103RBT6TR; Core: ARM Cortex-M3; Packing: Tape and Reel; Mounting Technology: Surface Mount; ComponentLink1Description: Manufacturer URL; ComponentLink1URL: http://www.st.com/web/en/home.html; ComponentLink2Description: Datasheet; ComponentLink2URL: http://www.st.com/st-web-ui/static/active/en/resource/technical/document/datasheet/CD00161566.pdf; ComponentLink3Description: Package Specification; ComponentLink3URL: http://www.st.com/st-web-ui/static/active/en/resource/technical/document/datasheet/DM00037051.pdf
footprint STM-LQFP64_N (Thin QFP, 64-Leads, Body 10x10mm, Pitch 0.5mm, IPC Medium Density)
footprint STM-LQFP64_L (Thin QFP, 64-Leads, Body 10x10mm, Pitch 0.5mm, IPC High Density)
footprint STM-LQFP64_M (Thin QFP, 64-Leads, Body 10x10mm, Pitch 0.5mm, IPC Low Density)
footprint STM-LQFP64_V (Thin QFP, 64-Leads, Body 10x10mm, Pitch 0.5mm, ST Recommended)
part A pins: 2 PC13-TAMPER-RTC (io) "PC13-TAMPER-RTC/PC13/TAMPER-RTC", 3 PC14-OSC32_IN (io) "PC14-OSC32_IN/PC14/OSC32_IN", 4 PC15-OSC32_OUT (io) "PC15-OSC32_OUT/PC15/OSC32_OUT", 5 PD0-OSC_IN (io) "PD0/OSC_IN", 6 PD1-OSC_OUT (io) "PD1/OSC_OUT", 7 NRST (io), 8 PC0 (io) "PC0/ADC12_IN10", 9 PC1 (io) "PC1/ADC12_IN11", 10 PC2 (io) "PC2/ADC12_IN12", 11 PC3 (io) "PC3/ADC12_IN13", 14 PA0-WKUP (io) "PA0-WKUP/PA0/WKUP/USART2_CTS/ADC12_IN0/TIM2_CH1_ETR", 15 PA1 (io) "PA1/USART2_RTS/ADC12_IN1/TIM2_CH2", 16 PA2 (io) "PA2/USART2_TX/ADC12_IN2/TIM2_CH3", 17 PA3 (io) "PA3/USART2_RX/ADC12_IN3/TIM2_CH4", 20 PA4 (io) "PA4/SPI1_NSS/USART2_CK/ADC12_IN4", 21 PA5 (io) "PA5/SPI1_SCK/ADC12_IN5", 22 PA6 (io) "PA6/SPI1_MISO/ADC12_IN6/TIM3_CH1/TIM1_BKIN", 23 PA7 (io) "PA7/SPI1_MOSI/ADC12_IN7/TIM3_CH2/TIM1_CH1N", 24 PC4 (io) "PC4/ADC12_IN14", 25 PC5 (io) "PC5/ADC12_IN15", 26 PB0 (io) "PB0/ADC12_IN8/TIM3_CH3/TIM1_CH2N", 27 PB1 (io) "PB1/ADC12_IN9/TIM3_CH4/TIM1_CH3N", 28 PB2 (io) "PB2/BOOT1", 29 PB10 (io) "PB10/I2C2_SCL/USART3_TX/TIM2_CH3", 30 PB11 (io) "PB11/I2C2_SDA/USART3_RX/TIM2_CH4", 33 PB12 (io) "PB12/SPI2_NSS/I2C2_SMBAl/USART3_CK/TIM1_BKIN", 34 PB13 (io) "PB13/SPI2_SCK/USART3_CTS/TIM1_CH1N", 35 PB14 (io) "PB14/SPI2_MISO/USART3_RTS/TIM1_CH2N", 36 PB15 (io) "PB15/SPI2_MOSI/TIM1_CH3N", 37 PC6 (io) "PC6/TIM3_CH1", 38 PC7 (io) "PC7/TIM3_CH2", 39 PC8 (io) "PC8/TIM3_CH3", 40 PC9 (io) "PC9/TIM3_CH4", 41 PA8 (io) "PA8/USART1_CK/TIM1_CH1/MCO", 42 PA9 (io) "PA9/USART1_TX/TIM1_CH2", 43 PA10 (io) "PA10/USART1_RX/TIM1_CH3", 44 PA11 (io) "PA11/USART1_CTS/CANRX/USBDM/TIM1_CH4", 45 PA12 (io) "PA12/USART1_RTS/CANTX/USBDP/TIM1_ETR", 46 PA13 (io) "PA13/JTMS/SWDIO", 49 PA14 (io) "PA14/JTCK/SWCLK", 50 PA15 (io) "PA15/JTDI/TIM2_CH1_ETR/SPI1_NSS", 51 PC10 (io) "PC10/USART3_TX", 52 PC11 (io) "PC11/USART3_RX", 53 PC12 (io) "PC12/USART3_CK", 54 PD2 (io) "PD2/TIM3_ETR", 55 PB3 (io) "PB3/JTDO/TIM2_CH2/TRACESWO/SPI1_SCK", 56 PB4 (io) "PB4/NJTRST/TIM3_CH1/SPI1_MISO", 57 PB5 (io) "PB5/I2C1_SMBAI/TIM3_CH2/SPI1_MOSI", 58 PB6 (io) "PB6/I2C1_SCL/TIM4_CH1/USART1_TX", 59 PB7 (io) "PB7/I2C1_SDA/TIM4_CH2/USART1_RX", 60 BOOT0 (in), 61 PB8 (io) "PB8/TIM4_CH3/I2C1_SCL/CANRX", 62 PB9 (io) "PB9/TIM4_CH4/I2C1_SDA/CANTX"
part B pins: 1 VBAT (power), 12 VSSA (power), 13 VDDA (power), 18 VSS_4 (power), 19 VDD_4 (power), 31 VSS_1 (power), 32 VDD_1 (power), 47 VSS_2 (power), 48 VDD_2 (power), 63 VSS_3 (power), 64 VDD_3 (power)

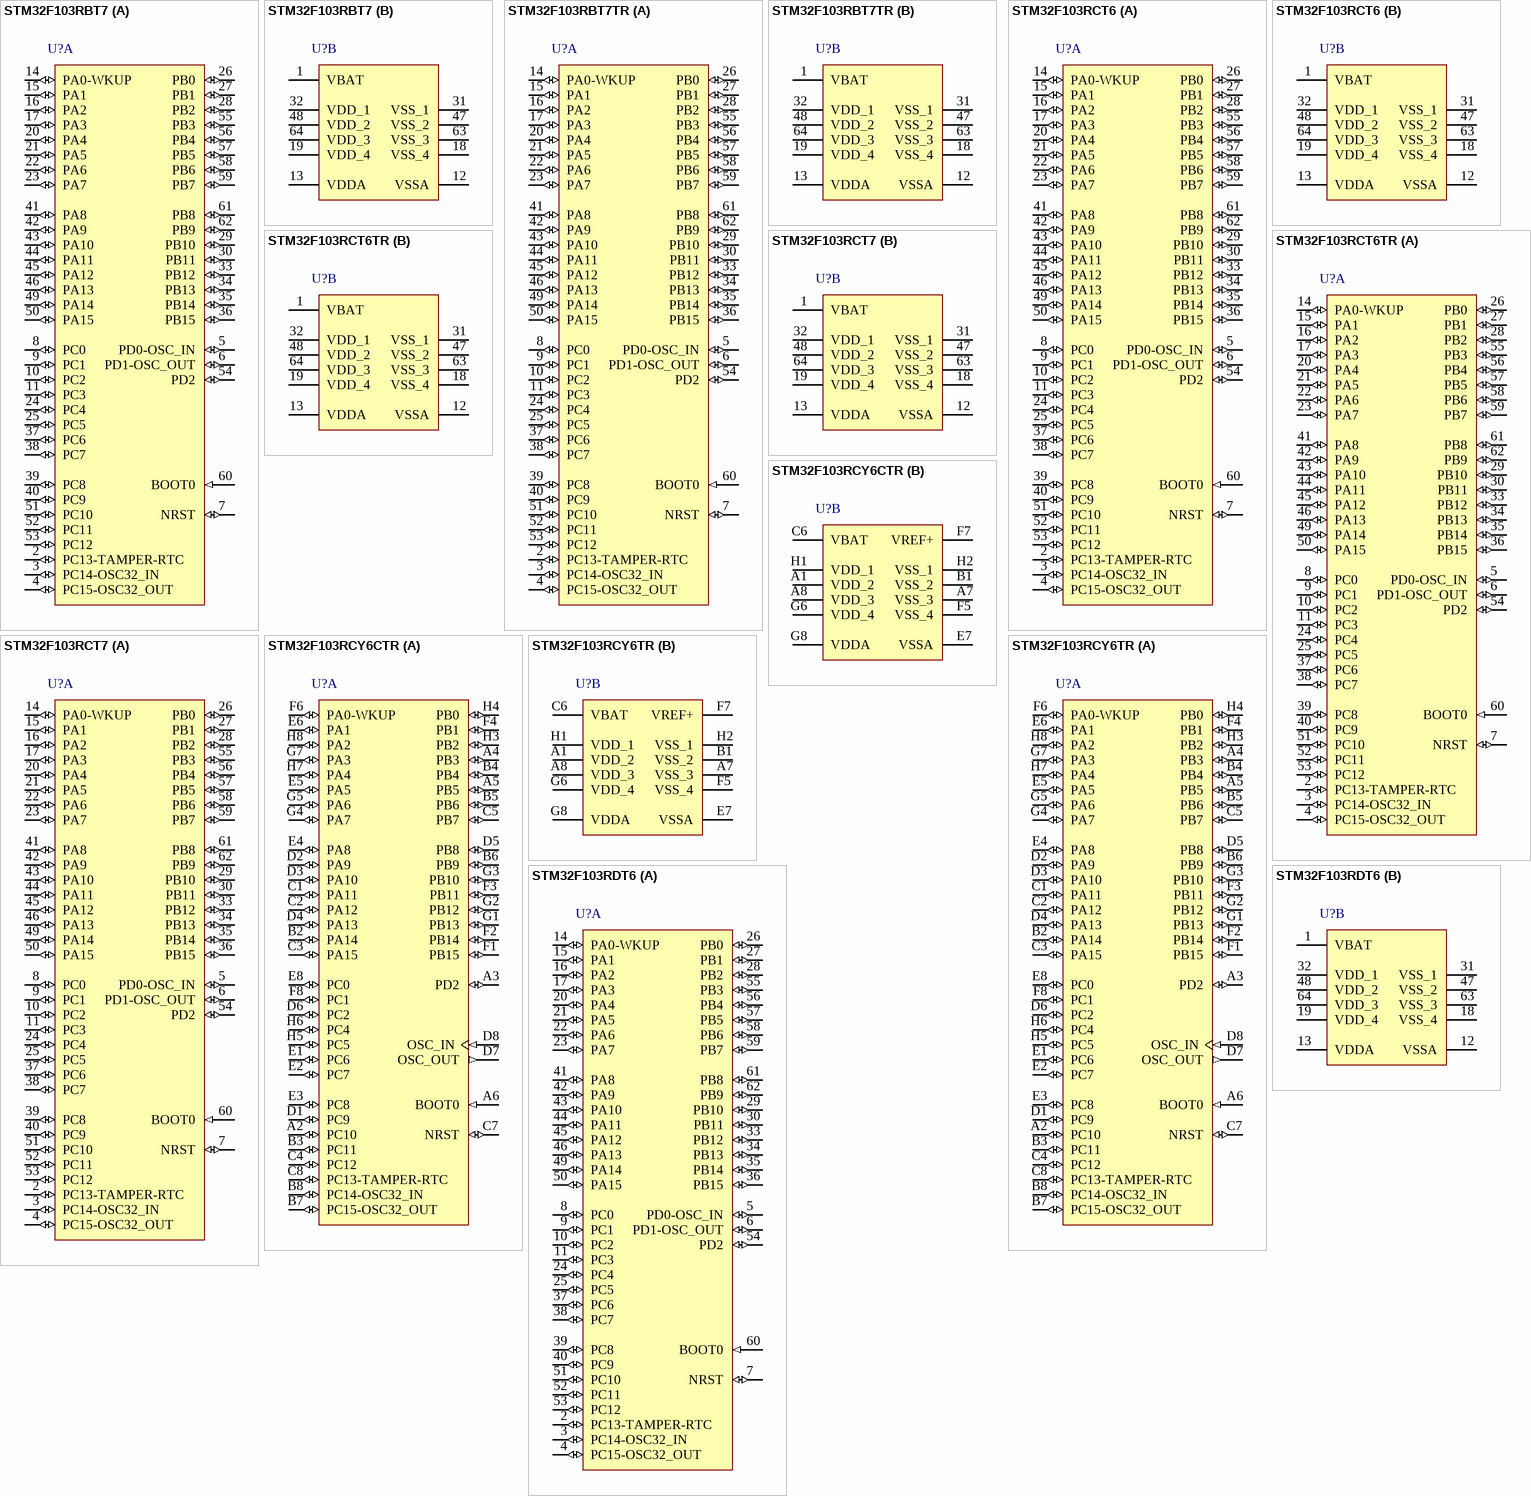
[diagram p21: symbols STM32F103RBT7 to STM32F103RDT6]

## STM32F103RBT7
designator U?
ARM Cortex-M3 32-bit MCU, 128 KB Flash, 20 KB Internal RAM, 51 I/Os, 64-pin LQFP, -40 to 105 degC, Tray; PartNumber: STM32F103RBT7; A/D Converter: 2x12-bit (16 Channel); FLASH Size (Prog) (kB): 128; I/Os (High Current): 51; Internal RAM Size (kB): 20; Operating Frequency(F) (Processor speed) (MHz): 72; Supply Voltage(Vcc) min (V): 2; DatasheetVersion: Rev. 16; PackageVersion: Rev. 4, 06/2013; PackageReference: LQFP64; PackageDescription: 64-Pin Low Profile Quad Flat Package, 10 x 10 mm Body, 0.5 mm Pitch; Supplier 1: Digi-Key; Supplier Part Number 1: 497-11526-ND; Supplier 2: Farnell; Supplier Part Number 2: 2215217; Supplier 3: Newark; Supplier Part Number 3: 46W2184; Supplier 4: Mouser; Supplier Part Number 4: 511-STM32F103RBT7; Core: ARM Cortex-M3; Packing: Tray; Mounting Technology: Surface Mount; ComponentLink1Description: Manufacturer URL; ComponentLink1URL: http://www.st.com/web/en/home.html; ComponentLink2Description: Datasheet; ComponentLink2URL: http://www.st.com/st-web-ui/static/active/en/resource/technical/document/datasheet/CD00161566.pdf; ComponentLink3Description: Package Specification; ComponentLink3URL: http://www.st.com/st-web-ui/static/active/en/resource/technical/document/datasheet/DM00037051.pdf
footprint STM-LQFP64_N (Thin QFP, 64-Leads, Body 10x10mm, Pitch 0.5mm, IPC Medium Density)
footprint STM-LQFP64_L (Thin QFP, 64-Leads, Body 10x10mm, Pitch 0.5mm, IPC High Density)
footprint STM-LQFP64_M (Thin QFP, 64-Leads, Body 10x10mm, Pitch 0.5mm, IPC Low Density)
footprint STM-LQFP64_V (Thin QFP, 64-Leads, Body 10x10mm, Pitch 0.5mm, ST Recommended)
part A pins: 2 PC13-TAMPER-RTC (io) "PC13-TAMPER-RTC/PC13/TAMPER-RTC", 3 PC14-OSC32_IN (io) "PC14-OSC32_IN/PC14/OSC32_IN", 4 PC15-OSC32_OUT (io) "PC15-OSC32_OUT/PC15/OSC32_OUT", 5 PD0-OSC_IN (io) "PD0/OSC_IN", 6 PD1-OSC_OUT (io) "PD1/OSC_OUT", 7 NRST (io), 8 PC0 (io) "PC0/ADC12_IN10", 9 PC1 (io) "PC1/ADC12_IN11", 10 PC2 (io) "PC2/ADC12_IN12", 11 PC3 (io) "PC3/ADC12_IN13", 14 PA0-WKUP (io) "PA0-WKUP/PA0/WKUP/USART2_CTS/ADC12_IN0/TIM2_CH1_ETR", 15 PA1 (io) "PA1/USART2_RTS/ADC12_IN1/TIM2_CH2", 16 PA2 (io) "PA2/USART2_TX/ADC12_IN2/TIM2_CH3", 17 PA3 (io) "PA3/USART2_RX/ADC12_IN3/TIM2_CH4", 20 PA4 (io) "PA4/SPI1_NSS/USART2_CK/ADC12_IN4", 21 PA5 (io) "PA5/SPI1_SCK/ADC12_IN5", 22 PA6 (io) "PA6/SPI1_MISO/ADC12_IN6/TIM3_CH1/TIM1_BKIN", 23 PA7 (io) "PA7/SPI1_MOSI/ADC12_IN7/TIM3_CH2/TIM1_CH1N", 24 PC4 (io) "PC4/ADC12_IN14", 25 PC5 (io) "PC5/ADC12_IN15", 26 PB0 (io) "PB0/ADC12_IN8/TIM3_CH3/TIM1_CH2N", 27 PB1 (io) "PB1/ADC12_IN9/TIM3_CH4/TIM1_CH3N", 28 PB2 (io) "PB2/BOOT1", 29 PB10 (io) "PB10/I2C2_SCL/USART3_TX/TIM2_CH3", 30 PB11 (io) "PB11/I2C2_SDA/USART3_RX/TIM2_CH4", 33 PB12 (io) "PB12/SPI2_NSS/I2C2_SMBAl/USART3_CK/TIM1_BKIN", 34 PB13 (io) "PB13/SPI2_SCK/USART3_CTS/TIM1_CH1N", 35 PB14 (io) "PB14/SPI2_MISO/USART3_RTS/TIM1_CH2N", 36 PB15 (io) "PB15/SPI2_MOSI/TIM1_CH3N", 37 PC6 (io) "PC6/TIM3_CH1", 38 PC7 (io) "PC7/TIM3_CH2", 39 PC8 (io) "PC8/TIM3_CH3", 40 PC9 (io) "PC9/TIM3_CH4", 41 PA8 (io) "PA8/USART1_CK/TIM1_CH1/MCO", 42 PA9 (io) "PA9/USART1_TX/TIM1_CH2", 43 PA10 (io) "PA10/USART1_RX/TIM1_CH3", 44 PA11 (io) "PA11/USART1_CTS/CANRX/USBDM/TIM1_CH4", 45 PA12 (io) "PA12/USART1_RTS/CANTX/USBDP/TIM1_ETR", 46 PA13 (io) "PA13/JTMS/SWDIO", 49 PA14 (io) "PA14/JTCK/SWCLK", 50 PA15 (io) "PA15/JTDI/TIM2_CH1_ETR/SPI1_NSS", 51 PC10 (io) "PC10/USART3_TX", 52 PC11 (io) "PC11/USART3_RX", 53 PC12 (io) "PC12/USART3_CK", 54 PD2 (io) "PD2/TIM3_ETR", 55 PB3 (io) "PB3/JTDO/TIM2_CH2/TRACESWO/SPI1_SCK", 56 PB4 (io) "PB4/NJTRST/TIM3_CH1/SPI1_MISO", 57 PB5 (io) "PB5/I2C1_SMBAI/TIM3_CH2/SPI1_MOSI", 58 PB6 (io) "PB6/I2C1_SCL/TIM4_CH1/USART1_TX", 59 PB7 (io) "PB7/I2C1_SDA/TIM4_CH2/USART1_RX", 60 BOOT0 (in), 61 PB8 (io) "PB8/TIM4_CH3/I2C1_SCL/CANRX", 62 PB9 (io) "PB9/TIM4_CH4/I2C1_SDA/CANTX"
part B pins: 1 VBAT (power), 12 VSSA (power), 13 VDDA (power), 18 VSS_4 (power), 19 VDD_4 (power), 31 VSS_1 (power), 32 VDD_1 (power), 47 VSS_2 (power), 48 VDD_2 (power), 63 VSS_3 (power), 64 VDD_3 (power)

## STM32F103RBT7TR
designator U?
ARM Cortex-M3 32-bit MCU, 128 KB Flash, 20 KB Internal RAM, 51 I/Os, 64-pin LQFP, -40 to 105 degC, Tape and Reel; PartNumber: STM32F103RBT7TR; A/D Converter: 2x12-bit (16 Channel); FLASH Size (Prog) (kB): 128; I/Os (High Current): 51; Internal RAM Size (kB): 20; Operating Frequency(F) (Processor speed) (MHz): 72; Supply Voltage(Vcc) min (V): 2; DatasheetVersion: Rev. 16; PackageVersion: Rev. 4, 06/2013; PackageReference: LQFP64; PackageDescription: 64-Pin Low Profile Quad Flat Package, 10 x 10 mm Body, 0.5 mm Pitch; Supplier 1: Digi-Key; Supplier Part Number 1: STM32F103RBT7TR-ND; Supplier 2: Mouser; Supplier Part Number 2: 511-STM32F103RBT7TR; Core: ARM Cortex-M3; Packing: Tape and Reel; Mounting Technology: Surface Mount; ComponentLink1Description: Manufacturer URL; ComponentLink1URL: http://www.st.com/web/en/home.html; ComponentLink2Description: Datasheet; ComponentLink2URL: http://www.st.com/st-web-ui/static/active/en/resource/technical/document/datasheet/CD00161566.pdf; ComponentLink3Description: Package Specification; ComponentLink3URL: http://www.st.com/st-web-ui/static/active/en/resource/technical/document/datasheet/DM00037051.pdf
footprint STM-LQFP64_N (Thin QFP, 64-Leads, Body 10x10mm, Pitch 0.5mm, IPC Medium Density)
footprint STM-LQFP64_L (Thin QFP, 64-Leads, Body 10x10mm, Pitch 0.5mm, IPC High Density)
footprint STM-LQFP64_M (Thin QFP, 64-Leads, Body 10x10mm, Pitch 0.5mm, IPC Low Density)
footprint STM-LQFP64_V (Thin QFP, 64-Leads, Body 10x10mm, Pitch 0.5mm, ST Recommended)
part A pins: 2 PC13-TAMPER-RTC (io) "PC13-TAMPER-RTC/PC13/TAMPER-RTC", 3 PC14-OSC32_IN (io) "PC14-OSC32_IN/PC14/OSC32_IN", 4 PC15-OSC32_OUT (io) "PC15-OSC32_OUT/PC15/OSC32_OUT", 5 PD0-OSC_IN (io) "PD0/OSC_IN", 6 PD1-OSC_OUT (io) "PD1/OSC_OUT", 7 NRST (io), 8 PC0 (io) "PC0/ADC12_IN10", 9 PC1 (io) "PC1/ADC12_IN11", 10 PC2 (io) "PC2/ADC12_IN12", 11 PC3 (io) "PC3/ADC12_IN13", 14 PA0-WKUP (io) "PA0-WKUP/PA0/WKUP/USART2_CTS/ADC12_IN0/TIM2_CH1_ETR", 15 PA1 (io) "PA1/USART2_RTS/ADC12_IN1/TIM2_CH2", 16 PA2 (io) "PA2/USART2_TX/ADC12_IN2/TIM2_CH3", 17 PA3 (io) "PA3/USART2_RX/ADC12_IN3/TIM2_CH4", 20 PA4 (io) "PA4/SPI1_NSS/USART2_CK/ADC12_IN4", 21 PA5 (io) "PA5/SPI1_SCK/ADC12_IN5", 22 PA6 (io) "PA6/SPI1_MISO/ADC12_IN6/TIM3_CH1/TIM1_BKIN", 23 PA7 (io) "PA7/SPI1_MOSI/ADC12_IN7/TIM3_CH2/TIM1_CH1N", 24 PC4 (io) "PC4/ADC12_IN14", 25 PC5 (io) "PC5/ADC12_IN15", 26 PB0 (io) "PB0/ADC12_IN8/TIM3_CH3/TIM1_CH2N", 27 PB1 (io) "PB1/ADC12_IN9/TIM3_CH4/TIM1_CH3N", 28 PB2 (io) "PB2/BOOT1", 29 PB10 (io) "PB10/I2C2_SCL/USART3_TX/TIM2_CH3", 30 PB11 (io) "PB11/I2C2_SDA/USART3_RX/TIM2_CH4", 33 PB12 (io) "PB12/SPI2_NSS/I2C2_SMBAl/USART3_CK/TIM1_BKIN", 34 PB13 (io) "PB13/SPI2_SCK/USART3_CTS/TIM1_CH1N", 35 PB14 (io) "PB14/SPI2_MISO/USART3_RTS/TIM1_CH2N", 36 PB15 (io) "PB15/SPI2_MOSI/TIM1_CH3N", 37 PC6 (io) "PC6/TIM3_CH1", 38 PC7 (io) "PC7/TIM3_CH2", 39 PC8 (io) "PC8/TIM3_CH3", 40 PC9 (io) "PC9/TIM3_CH4", 41 PA8 (io) "PA8/USART1_CK/TIM1_CH1/MCO", 42 PA9 (io) "PA9/USART1_TX/TIM1_CH2", 43 PA10 (io) "PA10/USART1_RX/TIM1_CH3", 44 PA11 (io) "PA11/USART1_CTS/CANRX/USBDM/TIM1_CH4", 45 PA12 (io) "PA12/USART1_RTS/CANTX/USBDP/TIM1_ETR", 46 PA13 (io) "PA13/JTMS/SWDIO", 49 PA14 (io) "PA14/JTCK/SWCLK", 50 PA15 (io) "PA15/JTDI/TIM2_CH1_ETR/SPI1_NSS", 51 PC10 (io) "PC10/USART3_TX", 52 PC11 (io) "PC11/USART3_RX", 53 PC12 (io) "PC12/USART3_CK", 54 PD2 (io) "PD2/TIM3_ETR", 55 PB3 (io) "PB3/JTDO/TIM2_CH2/TRACESWO/SPI1_SCK", 56 PB4 (io) "PB4/NJTRST/TIM3_CH1/SPI1_MISO", 57 PB5 (io) "PB5/I2C1_SMBAI/TIM3_CH2/SPI1_MOSI", 58 PB6 (io) "PB6/I2C1_SCL/TIM4_CH1/USART1_TX", 59 PB7 (io) "PB7/I2C1_SDA/TIM4_CH2/USART1_RX", 60 BOOT0 (in), 61 PB8 (io) "PB8/TIM4_CH3/I2C1_SCL/CANRX", 62 PB9 (io) "PB9/TIM4_CH4/I2C1_SDA/CANTX"
part B pins: 1 VBAT (power), 12 VSSA (power), 13 VDDA (power), 18 VSS_4 (power), 19 VDD_4 (power), 31 VSS_1 (power), 32 VDD_1 (power), 47 VSS_2 (power), 48 VDD_2 (power), 63 VSS_3 (power), 64 VDD_3 (power)

## STM32F103RCT6
designator U?
ARM Cortex-M3 32-bit MCU, 256 KB Flash, 48 KB Internal RAM, 51 I/Os, 64-pin LQFP, -40 to 85 degC, Tray; PartNumber: STM32F103RCT6; A/D Converter: 3x12-bit (16 Channel); D/A Converter: 2x12-bit (2 Channel); FLASH Size (Prog) (kB): 256; I/Os (High Current): 51; Internal RAM Size (kB): 48; Operating Frequency(F) (Processor speed) (MHz): 72; Supply Voltage(Vcc) min (V): 2; DatasheetVersion: Rev. 8; PackageVersion: Rev. 4, 06/2013; PackageReference: LQFP64; PackageDescription: 64-Pin Low Profile Quad Flat Package, 10 x 10 mm Body, 0.5 mm Pitch; Supplier 1: Digi-Key; Supplier Part Number 1: 497-9033-ND; Supplier 2: Newark; Supplier Part Number 2: 01P4099; Supplier 3: Newark; Supplier Part Number 3: 57P1227; Supplier 4: Mouser; Supplier Part Number 4: 511-STM32F103RCT6; Core: ARM Cortex-M3; Packing: Tray; Mounting Technology: Surface Mount; ComponentLink1Description: Manufacturer URL; ComponentLink1URL: http://www.st.com/web/en/home.html; ComponentLink2Description: Datasheet; ComponentLink2URL: http://www.st.com/st-web-ui/static/active/en/resource/technical/document/datasheet/CD00191185.pdf; ComponentLink3Description: Package Specification; ComponentLink3URL: http://www.st.com/st-web-ui/static/active/en/resource/technical/document/datasheet/DM00037051.pdf
footprint STM-LQFP64_N (Thin QFP, 64-Leads, Body 10x10mm, Pitch 0.5mm, IPC Medium Density)
footprint STM-LQFP64_L (Thin QFP, 64-Leads, Body 10x10mm, Pitch 0.5mm, IPC High Density)
footprint STM-LQFP64_M (Thin QFP, 64-Leads, Body 10x10mm, Pitch 0.5mm, IPC Low Density)
footprint STM-LQFP64_V (Thin QFP, 64-Leads, Body 10x10mm, Pitch 0.5mm, ST Recommended)
part A pins: 2 PC13-TAMPER-RTC (io) "PC13-TAMPER-RTC/PC13/TAMPER-RTC", 3 PC14-OSC32_IN (io) "PC14-OSC32_IN/PC14/OSC32_IN", 4 PC15-OSC32_OUT (io) "PC15-OSC32_OUT/PC15/OSC32_OUT", 5 PD0-OSC_IN (io) "PD0/OSC_IN/CAN_RX", 6 PD1-OSC_OUT (io) "PD1/OSC_OUT/CAN_TX", 7 NRST (io), 8 PC0 (io) "PC0/ADC123_IN10", 9 PC1 (io) "PC1/ADC123_IN11", 10 PC2 (io) "PC2/ADC123_IN12", 11 PC3 (io) "PC3/ADC123_IN13", 14 PA0-WKUP (io) "PA0-WKUP/PA0/WKUP/USART2_CTS/ADC123_IN0/TIM2_CH1_ETR/TIM5_CH1/TIM8_ETR", 15 PA1 (io) "PA1/USART2_RTS/ADC123_IN1/TIM5_CH2/TIM2_CH2", 16 PA2 (io) "PA2/USART2_TX/TIM5_CH3/ADC123_IN2/TIM2_CH3", 17 PA3 (io) "PA3/USART2_RX/TIM5_CH4/ADC123_IN3/TIM2_CH4", 20 PA4 (io) "PA4/SPI1_NSS/USART2_CK/DAC_OUT1/ADC12_IN4", 21 PA5 (io) "PA5/SPI1_SCK/DAC_OUT2/ADC12_IN5", 22 PA6 (io) "PA6/SPI1_MISO/TIM8_BKIN/ADC12_IN6/TIM3_CH1/TIM1_BKIN", 23 PA7 (io) "PA7/SPI1_MOSI/TIM8_CH1N/ADC12_IN7/TIM3_CH2/TIM1_CH1N", 24 PC4 (io) "PC4/ADC12_IN14", 25 PC5 (io) "PC5/ADC12_IN15", 26 PB0 (io) "PB0/ADC12_IN8/TIM3_CH3/TIM8_CH2N/TIM1_CH2N", 27 PB1 (io) "PB1/ADC12_IN9/TIM3_CH4/TIM8_CH3N/TIM1_CH3N", 28 PB2 (io) "PB2/BOOT1", 29 PB10 (io) "PB10/I2C2_SCL/USART3_TX/TIM2_CH3", 30 PB11 (io) "PB11/I2C2_SDA/USART3_RX/TIM2_CH4", 33 PB12 (io) "PB12/SPI2_NSS/I2S2_WS/I2C2_SMBA/USART3_CK/TIM1_BKIN", 34 PB13 (io) "PB13/SPI2_SCK/I2S2_CK/USART3_CTS/TIM1_CH1N", 35 PB14 (io) "PB14/SPI2_MISO/TIM1_CH2N/USART3_RTS", 36 PB15 (io) "PB15/SPI2_MOSI/I2S2_SD/TIM1_CH3N", 37 PC6 (io) "PC6/I2S2_MCK/TIM8_CH1/SDIO_D6/TIM3_CH1", 38 PC7 (io) "PC7/I2S3_MCK/TIM8_CH2/SDIO_D7/TIM3_CH2", 39 PC8 (io) "PC8/TIM8_CH3/SDIO_D0/TIM3_CH3", 40 PC9 (io) "PC9/TIM8_CH4/SDIO_D1/TIM3_CH4", 41 PA8 (io) "PA8/USART1_CK/TIM1_CH1/MCO", 42 PA9 (io) "PA9/USART1_TX/TIM1_CH2", 43 PA10 (io) "PA10/USART1_RX/TIM1_CH3", 44 PA11 (io) "PA11/USART1_CTS/USBDM/CAN_RX/TIM1_CH4", 45 PA12 (io) "PA12/USART1_RTS/USBDP/CAN_TX/TIM1_ETR", 46 PA13 (io) "PA13/JTMS-SWDIO", 49 PA14 (io) "PA14/JTCK-SWCLK", 50 PA15 (io) "PA15/JTDI/SPI3_NSS/I2S3_WS/TIM2_CH1_ETR/SPI1_NSS", 51 PC10 (io) "PC10/UART4_TX/SDIO_D2/USART3_TX", 52 PC11 (io) "PC11/UART4_RX/SDIO_D3/USART3_RX", 53 PC12 (io) "PC12/UART5_TX/SDIO_CK/USART3_CK", 54 PD2 (io) "PD2/TIM3_ETR/UART5_RX/SDIO_CMD", 55 PB3 (io) "PB3/JTDO/SPI3_SCK/I2S3_CK/TRACESWO/TIM2_CH2/SPI1_SCK", 56 PB4 (io) "PB4/NJTRST/SPI3_MISO/TIM3_CH1/SPI1_MISO", 57 PB5 (io) "PB5/I2C1_SMBA/SPI3_MOSI/I2S3_SD/TIM3_CH2/SPI1_MOSI", 58 PB6 (io) "PB6/I2C1_SCL/TIM4_CH1/USART1_TX", 59 PB7 (io) "PB7/I2C1_SDA/TIM4_CH2/USART1_RX", 60 BOOT0 (in), 61 PB8 (io) "PB8/TIM4_CH3/SDIO_D4/I2C1_SCL/CAN_RX", 62 PB9 (io) "PB9/TIM4_CH4/SDIO_D5/I2C1_SDA/CAN_TX"
part B pins: 1 VBAT (power), 12 VSSA (power), 13 VDDA (power), 18 VSS_4 (power), 19 VDD_4 (power), 31 VSS_1 (power), 32 VDD_1 (power), 47 VSS_2 (power), 48 VDD_2 (power), 63 VSS_3 (power), 64 VDD_3 (power)

## STM32F103RCT6TR
designator U?
ARM Cortex-M3 32-bit MCU, 256 KB Flash, 48 KB Internal RAM, 51 I/Os, 64-pin LQFP, -40 to 85 degC, Tape and Reel; PartNumber: STM32F103RCT6TR; A/D Converter: 3x12-bit (16 Channel); D/A Converter: 2x12-bit (2 Channel); FLASH Size (Prog) (kB): 256; I/Os (High Current): 51; Internal RAM Size (kB): 48; Operating Frequency(F) (Processor speed) (MHz): 72; Supply Voltage(Vcc) min (V): 2; DatasheetVersion: Rev. 8; PackageVersion: Rev. 4, 06/2013; PackageReference: LQFP64; PackageDescription: 64-Pin Low Profile Quad Flat Package, 10 x 10 mm Body, 0.5 mm Pitch; Supplier 1: Digi-Key; Supplier Part Number 1: STM32F103RCT6TR-ND; Supplier 2: Newark; Supplier Part Number 2: 57P1228; Supplier 3: Mouser; Supplier Part Number 3: 511-STM32F103RCT6TR; Core: ARM Cortex-M3; Packing: Tape and Reel; Mounting Technology: Surface Mount; ComponentLink1Description: Manufacturer URL; ComponentLink1URL: http://www.st.com/web/en/home.html; ComponentLink2Description: Datasheet; ComponentLink2URL: http://www.st.com/st-web-ui/static/active/en/resource/technical/document/datasheet/CD00191185.pdf; ComponentLink3Description: Package Specification; ComponentLink3URL: http://www.st.com/st-web-ui/static/active/en/resource/technical/document/datasheet/DM00037051.pdf
footprint STM-LQFP64_N (Thin QFP, 64-Leads, Body 10x10mm, Pitch 0.5mm, IPC Medium Density)
footprint STM-LQFP64_L (Thin QFP, 64-Leads, Body 10x10mm, Pitch 0.5mm, IPC High Density)
footprint STM-LQFP64_M (Thin QFP, 64-Leads, Body 10x10mm, Pitch 0.5mm, IPC Low Density)
footprint STM-LQFP64_V (Thin QFP, 64-Leads, Body 10x10mm, Pitch 0.5mm, ST Recommended)
part A pins: 2 PC13-TAMPER-RTC (io) "PC13-TAMPER-RTC/PC13/TAMPER-RTC", 3 PC14-OSC32_IN (io) "PC14-OSC32_IN/PC14/OSC32_IN", 4 PC15-OSC32_OUT (io) "PC15-OSC32_OUT/PC15/OSC32_OUT", 5 PD0-OSC_IN (io) "PD0/OSC_IN/CAN_RX", 6 PD1-OSC_OUT (io) "PD1/OSC_OUT/CAN_TX", 7 NRST (io), 8 PC0 (io) "PC0/ADC123_IN10", 9 PC1 (io) "PC1/ADC123_IN11", 10 PC2 (io) "PC2/ADC123_IN12", 11 PC3 (io) "PC3/ADC123_IN13", 14 PA0-WKUP (io) "PA0-WKUP/PA0/WKUP/USART2_CTS/ADC123_IN0/TIM2_CH1_ETR/TIM5_CH1/TIM8_ETR", 15 PA1 (io) "PA1/USART2_RTS/ADC123_IN1/TIM5_CH2/TIM2_CH2", 16 PA2 (io) "PA2/USART2_TX/TIM5_CH3/ADC123_IN2/TIM2_CH3", 17 PA3 (io) "PA3/USART2_RX/TIM5_CH4/ADC123_IN3/TIM2_CH4", 20 PA4 (io) "PA4/SPI1_NSS/USART2_CK/DAC_OUT1/ADC12_IN4", 21 PA5 (io) "PA5/SPI1_SCK/DAC_OUT2/ADC12_IN5", 22 PA6 (io) "PA6/SPI1_MISO/TIM8_BKIN/ADC12_IN6/TIM3_CH1/TIM1_BKIN", 23 PA7 (io) "PA7/SPI1_MOSI/TIM8_CH1N/ADC12_IN7/TIM3_CH2/TIM1_CH1N", 24 PC4 (io) "PC4/ADC12_IN14", 25 PC5 (io) "PC5/ADC12_IN15", 26 PB0 (io) "PB0/ADC12_IN8/TIM3_CH3/TIM8_CH2N/TIM1_CH2N", 27 PB1 (io) "PB1/ADC12_IN9/TIM3_CH4/TIM8_CH3N/TIM1_CH3N", 28 PB2 (io) "PB2/BOOT1", 29 PB10 (io) "PB10/I2C2_SCL/USART3_TX/TIM2_CH3", 30 PB11 (io) "PB11/I2C2_SDA/USART3_RX/TIM2_CH4", 33 PB12 (io) "PB12/SPI2_NSS/I2S2_WS/I2C2_SMBA/USART3_CK/TIM1_BKIN", 34 PB13 (io) "PB13/SPI2_SCK/I2S2_CK/USART3_CTS/TIM1_CH1N", 35 PB14 (io) "PB14/SPI2_MISO/TIM1_CH2N/USART3_RTS", 36 PB15 (io) "PB15/SPI2_MOSI/I2S2_SD/TIM1_CH3N", 37 PC6 (io) "PC6/I2S2_MCK/TIM8_CH1/SDIO_D6/TIM3_CH1", 38 PC7 (io) "PC7/I2S3_MCK/TIM8_CH2/SDIO_D7/TIM3_CH2", 39 PC8 (io) "PC8/TIM8_CH3/SDIO_D0/TIM3_CH3", 40 PC9 (io) "PC9/TIM8_CH4/SDIO_D1/TIM3_CH4", 41 PA8 (io) "PA8/USART1_CK/TIM1_CH1/MCO", 42 PA9 (io) "PA9/USART1_TX/TIM1_CH2", 43 PA10 (io) "PA10/USART1_RX/TIM1_CH3", 44 PA11 (io) "PA11/USART1_CTS/USBDM/CAN_RX/TIM1_CH4", 45 PA12 (io) "PA12/USART1_RTS/USBDP/CAN_TX/TIM1_ETR", 46 PA13 (io) "PA13/JTMS-SWDIO", 49 PA14 (io) "PA14/JTCK-SWCLK", 50 PA15 (io) "PA15/JTDI/SPI3_NSS/I2S3_WS/TIM2_CH1_ETR/SPI1_NSS", 51 PC10 (io) "PC10/UART4_TX/SDIO_D2/USART3_TX", 52 PC11 (io) "PC11/UART4_RX/SDIO_D3/USART3_RX", 53 PC12 (io) "PC12/UART5_TX/SDIO_CK/USART3_CK", 54 PD2 (io) "PD2/TIM3_ETR/UART5_RX/SDIO_CMD", 55 PB3 (io) "PB3/JTDO/SPI3_SCK/I2S3_CK/TRACESWO/TIM2_CH2/SPI1_SCK", 56 PB4 (io) "PB4/NJTRST/SPI3_MISO/TIM3_CH1/SPI1_MISO", 57 PB5 (io) "PB5/I2C1_SMBA/SPI3_MOSI/I2S3_SD/TIM3_CH2/SPI1_MOSI", 58 PB6 (io) "PB6/I2C1_SCL/TIM4_CH1/USART1_TX", 59 PB7 (io) "PB7/I2C1_SDA/TIM4_CH2/USART1_RX", 60 BOOT0 (in), 61 PB8 (io) "PB8/TIM4_CH3/SDIO_D4/I2C1_SCL/CAN_RX", 62 PB9 (io) "PB9/TIM4_CH4/SDIO_D5/I2C1_SDA/CAN_TX"
part B pins: 1 VBAT (power), 12 VSSA (power), 13 VDDA (power), 18 VSS_4 (power), 19 VDD_4 (power), 31 VSS_1 (power), 32 VDD_1 (power), 47 VSS_2 (power), 48 VDD_2 (power), 63 VSS_3 (power), 64 VDD_3 (power)

## STM32F103RCT7
designator U?
ARM Cortex-M3 32-bit MCU, 256 KB Flash, 48 KB Internal RAM, 51 I/Os, 64-pin LQFP, -40 to 105 degC, Tray; PartNumber: STM32F103RCT7; A/D Converter: 3x12-bit (16 Channel); D/A Converter: 2x12-bit (2 Channel); FLASH Size (Prog) (kB): 256; I/Os (High Current): 51; Internal RAM Size (kB): 48; Operating Frequency(F) (Processor speed) (MHz): 72; Supply Voltage(Vcc) min (V): 2; DatasheetVersion: Rev. 8; PackageVersion: Rev. 4, 06/2013; PackageReference: LQFP64; PackageDescription: 64-Pin Low Profile Quad Flat Package, 10 x 10 mm Body, 0.5 mm Pitch; Supplier 1: Digi-Key; Supplier Part Number 1: 497-11527-ND; Supplier 2: Farnell; Supplier Part Number 2: 2333169; Supplier 3: Newark; Supplier Part Number 3: 99W9785; Supplier 4: Newark; Supplier Part Number 4: 57P1229; Supplier 5: Mouser; Supplier Part Number 5: 511-STM32F103RCT7; Core: ARM Cortex-M3; Packing: Tray; Mounting Technology: Surface Mount; ComponentLink1Description: Manufacturer URL; ComponentLink1URL: http://www.st.com/web/en/home.html; ComponentLink2Description: Datasheet; ComponentLink2URL: http://www.st.com/st-web-ui/static/active/en/resource/technical/document/datasheet/CD00191185.pdf; ComponentLink3Description: Package Specification; ComponentLink3URL: http://www.st.com/st-web-ui/static/active/en/resource/technical/document/datasheet/DM00037051.pdf
footprint STM-LQFP64_N (Thin QFP, 64-Leads, Body 10x10mm, Pitch 0.5mm, IPC Medium Density)
footprint STM-LQFP64_L (Thin QFP, 64-Leads, Body 10x10mm, Pitch 0.5mm, IPC High Density)
footprint STM-LQFP64_M (Thin QFP, 64-Leads, Body 10x10mm, Pitch 0.5mm, IPC Low Density)
footprint STM-LQFP64_V (Thin QFP, 64-Leads, Body 10x10mm, Pitch 0.5mm, ST Recommended)
part A pins: 2 PC13-TAMPER-RTC (io) "PC13-TAMPER-RTC/PC13/TAMPER-RTC", 3 PC14-OSC32_IN (io) "PC14-OSC32_IN/PC14/OSC32_IN", 4 PC15-OSC32_OUT (io) "PC15-OSC32_OUT/PC15/OSC32_OUT", 5 PD0-OSC_IN (io) "PD0/OSC_IN/CAN_RX", 6 PD1-OSC_OUT (io) "PD1/OSC_OUT/CAN_TX", 7 NRST (io), 8 PC0 (io) "PC0/ADC123_IN10", 9 PC1 (io) "PC1/ADC123_IN11", 10 PC2 (io) "PC2/ADC123_IN12", 11 PC3 (io) "PC3/ADC123_IN13", 14 PA0-WKUP (io) "PA0-WKUP/PA0/WKUP/USART2_CTS/ADC123_IN0/TIM2_CH1_ETR/TIM5_CH1/TIM8_ETR", 15 PA1 (io) "PA1/USART2_RTS/ADC123_IN1/TIM5_CH2/TIM2_CH2", 16 PA2 (io) "PA2/USART2_TX/TIM5_CH3/ADC123_IN2/TIM2_CH3", 17 PA3 (io) "PA3/USART2_RX/TIM5_CH4/ADC123_IN3/TIM2_CH4", 20 PA4 (io) "PA4/SPI1_NSS/USART2_CK/DAC_OUT1/ADC12_IN4", 21 PA5 (io) "PA5/SPI1_SCK/DAC_OUT2/ADC12_IN5", 22 PA6 (io) "PA6/SPI1_MISO/TIM8_BKIN/ADC12_IN6/TIM3_CH1/TIM1_BKIN", 23 PA7 (io) "PA7/SPI1_MOSI/TIM8_CH1N/ADC12_IN7/TIM3_CH2/TIM1_CH1N", 24 PC4 (io) "PC4/ADC12_IN14", 25 PC5 (io) "PC5/ADC12_IN15", 26 PB0 (io) "PB0/ADC12_IN8/TIM3_CH3/TIM8_CH2N/TIM1_CH2N", 27 PB1 (io) "PB1/ADC12_IN9/TIM3_CH4/TIM8_CH3N/TIM1_CH3N", 28 PB2 (io) "PB2/BOOT1", 29 PB10 (io) "PB10/I2C2_SCL/USART3_TX/TIM2_CH3", 30 PB11 (io) "PB11/I2C2_SDA/USART3_RX/TIM2_CH4", 33 PB12 (io) "PB12/SPI2_NSS/I2S2_WS/I2C2_SMBA/USART3_CK/TIM1_BKIN", 34 PB13 (io) "PB13/SPI2_SCK/I2S2_CK/USART3_CTS/TIM1_CH1N", 35 PB14 (io) "PB14/SPI2_MISO/TIM1_CH2N/USART3_RTS", 36 PB15 (io) "PB15/SPI2_MOSI/I2S2_SD/TIM1_CH3N", 37 PC6 (io) "PC6/I2S2_MCK/TIM8_CH1/SDIO_D6/TIM3_CH1", 38 PC7 (io) "PC7/I2S3_MCK/TIM8_CH2/SDIO_D7/TIM3_CH2", 39 PC8 (io) "PC8/TIM8_CH3/SDIO_D0/TIM3_CH3", 40 PC9 (io) "PC9/TIM8_CH4/SDIO_D1/TIM3_CH4", 41 PA8 (io) "PA8/USART1_CK/TIM1_CH1/MCO", 42 PA9 (io) "PA9/USART1_TX/TIM1_CH2", 43 PA10 (io) "PA10/USART1_RX/TIM1_CH3", 44 PA11 (io) "PA11/USART1_CTS/USBDM/CAN_RX/TIM1_CH4", 45 PA12 (io) "PA12/USART1_RTS/USBDP/CAN_TX/TIM1_ETR", 46 PA13 (io) "PA13/JTMS-SWDIO", 49 PA14 (io) "PA14/JTCK-SWCLK", 50 PA15 (io) "PA15/JTDI/SPI3_NSS/I2S3_WS/TIM2_CH1_ETR/SPI1_NSS", 51 PC10 (io) "PC10/UART4_TX/SDIO_D2/USART3_TX", 52 PC11 (io) "PC11/UART4_RX/SDIO_D3/USART3_RX", 53 PC12 (io) "PC12/UART5_TX/SDIO_CK/USART3_CK", 54 PD2 (io) "PD2/TIM3_ETR/UART5_RX/SDIO_CMD", 55 PB3 (io) "PB3/JTDO/SPI3_SCK/I2S3_CK/TRACESWO/TIM2_CH2/SPI1_SCK", 56 PB4 (io) "PB4/NJTRST/SPI3_MISO/TIM3_CH1/SPI1_MISO", 57 PB5 (io) "PB5/I2C1_SMBA/SPI3_MOSI/I2S3_SD/TIM3_CH2/SPI1_MOSI", 58 PB6 (io) "PB6/I2C1_SCL/TIM4_CH1/USART1_TX", 59 PB7 (io) "PB7/I2C1_SDA/TIM4_CH2/USART1_RX", 60 BOOT0 (in), 61 PB8 (io) "PB8/TIM4_CH3/SDIO_D4/I2C1_SCL/CAN_RX", 62 PB9 (io) "PB9/TIM4_CH4/SDIO_D5/I2C1_SDA/CAN_TX"
part B pins: 1 VBAT (power), 12 VSSA (power), 13 VDDA (power), 18 VSS_4 (power), 19 VDD_4 (power), 31 VSS_1 (power), 32 VDD_1 (power), 47 VSS_2 (power), 48 VDD_2 (power), 63 VSS_3 (power), 64 VDD_3 (power)